# Altium integrated library TI Data Converters Analog to Digital Converter.IntLib: 2197 symbols (part 135 of 168)
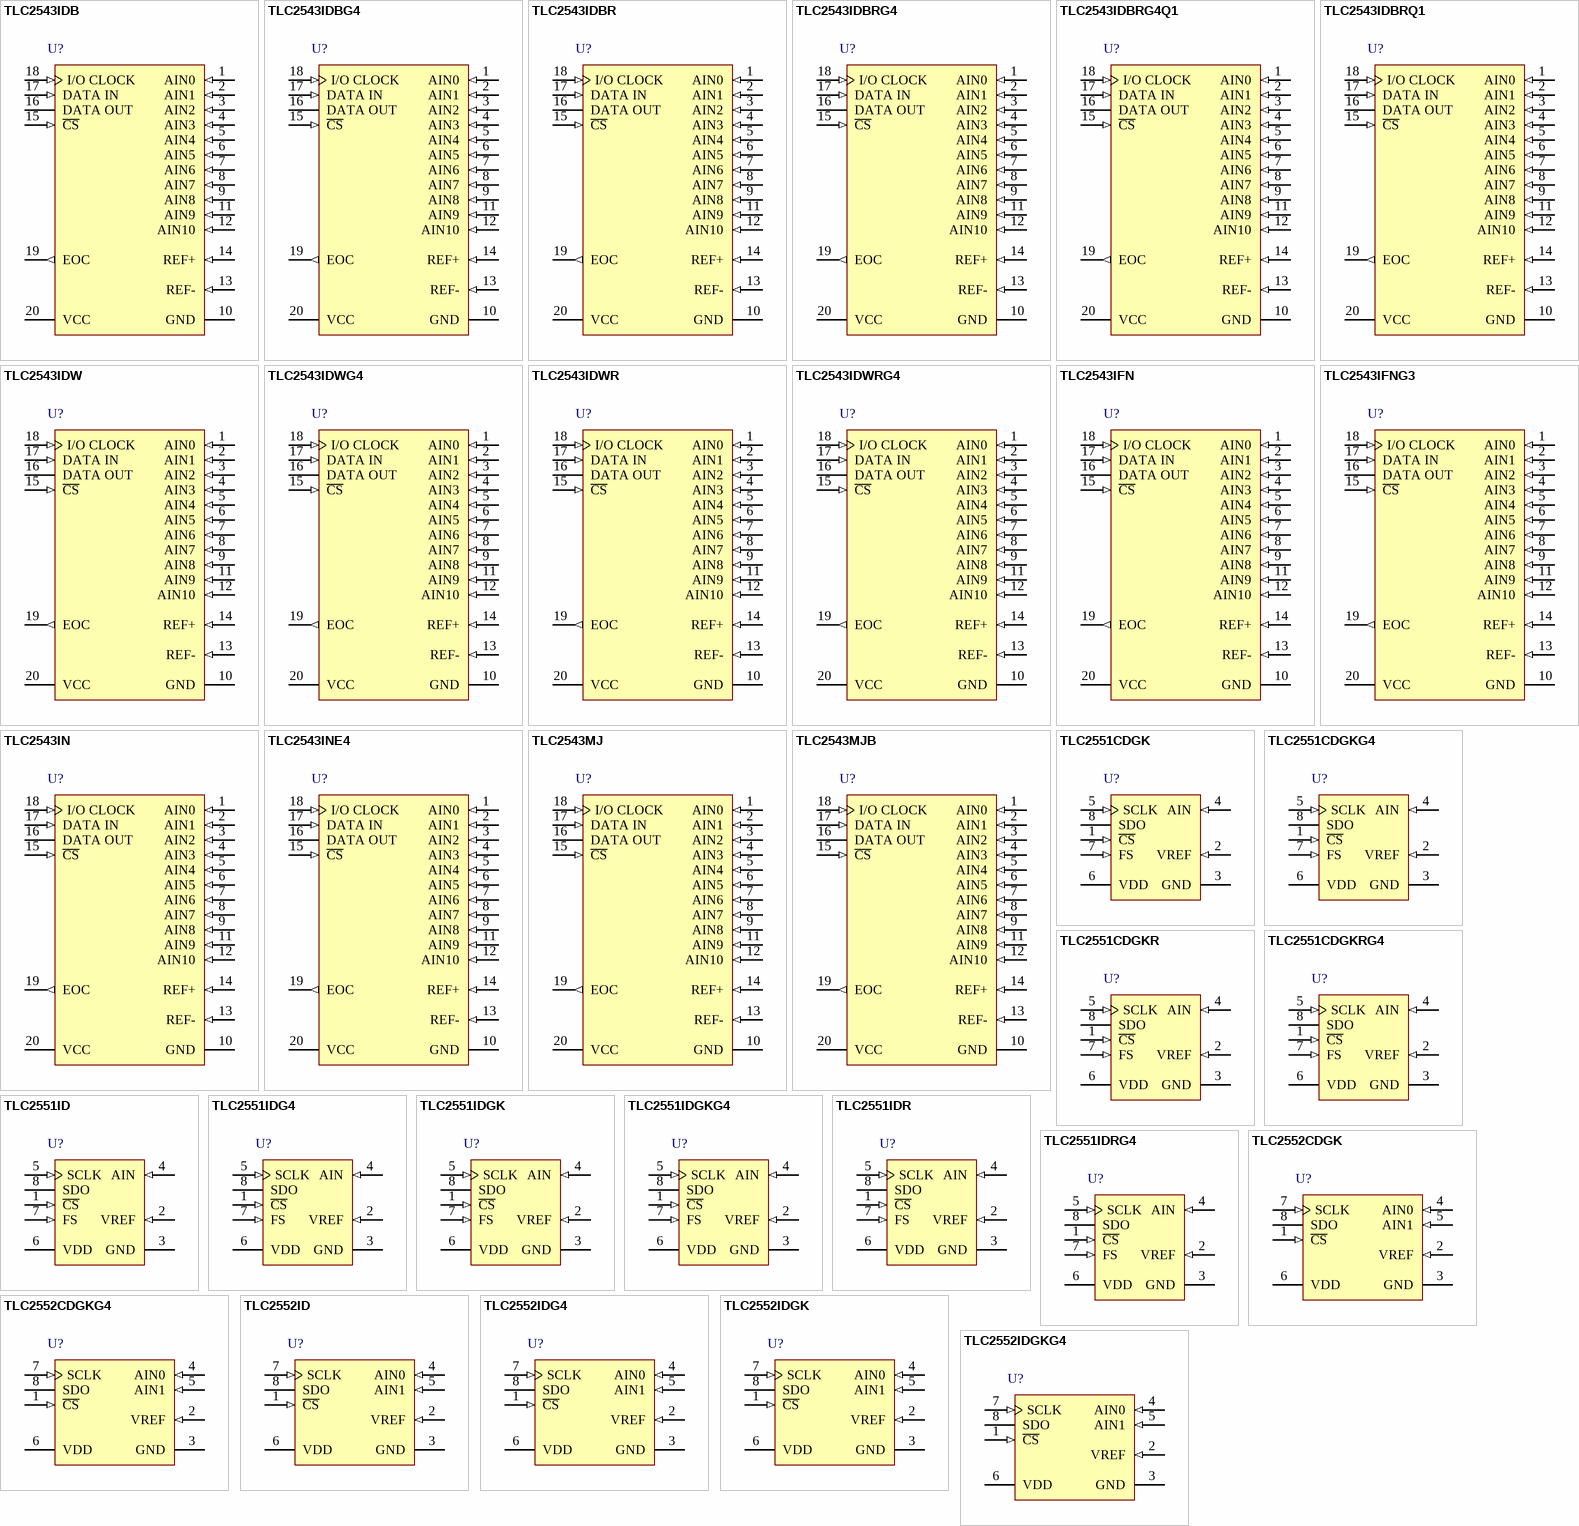
[diagram p260: symbols TLC2543IDB to TLC2552IDGKG4]

## TLC2552CDGK
designator U?
12-Bit, 400 kSPS ADC, Serial Out, TMS320 Compatible (up to 10 MHz), Dual Channel Auto Sweep, 0 to 70 degC, 8-pin SOP (DGK8), Green (RoHS & no Sb/Br); Manufacturer: Texas Instruments; PartNumber: TLC2552CDGK; # Input Channels: 2; Analog Voltage AV/DD(Max)(V): 5.5; Analog Voltage AV/DD(Min)(V): 4.5; Architecture: SAR; ENOB(Bits): 11.8; INL(Max)(+/-LSB): 1; Interface: Serial SPI; Resolution(Bits): 12; Sample Rate (max)(SPS): 400k; SFDR(dB): 84; SINAD(dB): 72; SubFamily: Precision ADC (<=10MSPS); DatasheetVersion: SLAS276D; PackageVersion: 4073329/E, 05/2006; PackageReference: DGK8; PackageDescription: 8-Pin Thin Small Outline, Body 3 x 3 mm, Pitch 0.65 mm; Supplier 1: Digi-Key; Supplier Part Number 1: TLV0838IDWRG4-ND; Supplier 2: Mouser; Supplier Part Number 2: 595-TLV0838IDWRG4; Digital Supply(Max)(V): 5.5; Digital Supply(Min)(V): 4.5; Eco-Plan: Green (RoHS & no Sb/Br); Mounting Technology: Surface Mount; Code_JEDEC: MO-187; ComponentLink1Description: Manufacturer URL; ComponentLink1URL: http://www.ti.com/; ComponentLink2Description: Datasheet; ComponentLink2URL: http://www.ti.com/general/docs/lit/getliterature.tsp?genericPartNumber=TLC2552&fileType=pdf; ComponentLink3Description: Package Specification; ComponentLink3URL: http://www.ti.com/litv/pdf/mpds028d
footprint TI-DGK8_N (SOP, 8-Leads, Body 3x3mm, Pitch 0.65mm, IPC Medium Density)
footprint TI-DGK8_L (SOP, 8-Leads, Body 3x3mm, Pitch 0.65mm, IPC High Density)
footprint TI-DGK8_M (SOP, 8-Leads, Body 3x3mm, Pitch 0.65mm, IPC Low Density)
pins: 1 ~{CS} (in) "Chip select. A high-to-low transition on C\S\ removes SDO from 3-state within a maximum delay time. This pin can be connected to the FS output from a DSP on a dedicated serial port.", 2 VREF (in) "External reference input", 3 GND (power) "Ground return for the internal circuitry. Unless otherwise noted, all voltage measurements are with respect to GND.", 4 AIN0 (in) "Analog input channel 0", 5 AIN1 (in) "Analog input channel 1", 6 VDD (power) "Positive supply voltage", 7 SCLK (in) "Output serial clock. This terminal receives the serial SCLK from the host processor.", 8 SDO (hiz) "The 3-state serial output for the A/D conversion result. SDO is kept in the high-impedance state when C\S\ is high and presents output data after the C\S\ falling edge until the LSB is presented. The output format is MSB (See Datasheet)"

## TLC2552CDGKG4
designator U?
12-Bit, 400 kSPS ADC, Serial Out, TMS320 Compatible (up to 10 MHz), Dual Channel Auto Sweep, 0 to 70 degC, 8-pin SOP (DGK8), Green (RoHS & no Sb/Br); Manufacturer: Texas Instruments; PartNumber: TLC2552CDGKG4; # Input Channels: 2; Analog Voltage AV/DD(Max)(V): 5.5; Analog Voltage AV/DD(Min)(V): 4.5; Architecture: SAR; ENOB(Bits): 11.8; INL(Max)(+/-LSB): 1; Interface: Serial SPI; Resolution(Bits): 12; Sample Rate (max)(SPS): 400k; SFDR(dB): 84; SINAD(dB): 72; SubFamily: Precision ADC (<=10MSPS); DatasheetVersion: SLAS276D; PackageVersion: 4073329/E, 05/2006; PackageReference: DGK8; PackageDescription: 8-Pin Thin Small Outline, Body 3 x 3 mm, Pitch 0.65 mm; Supplier 1: Digi-Key; Supplier Part Number 1: 296-2954-5-ND; Supplier 2: Newark; Supplier Part Number 2: 76C7764; Supplier 3: Mouser; Supplier Part Number 3: 595-TLV0838IPW; Digital Supply(Max)(V): 5.5; Digital Supply(Min)(V): 4.5; Eco-Plan: Green (RoHS & no Sb/Br); Mounting Technology: Surface Mount; Code_JEDEC: MO-187; ComponentLink1Description: Manufacturer URL; ComponentLink1URL: http://www.ti.com/; ComponentLink2Description: Datasheet; ComponentLink2URL: http://www.ti.com/general/docs/lit/getliterature.tsp?genericPartNumber=TLC2552&fileType=pdf; ComponentLink3Description: Package Specification; ComponentLink3URL: http://www.ti.com/litv/pdf/mpds028d
footprint TI-DGK8_N (SOP, 8-Leads, Body 3x3mm, Pitch 0.65mm, IPC Medium Density)
footprint TI-DGK8_L (SOP, 8-Leads, Body 3x3mm, Pitch 0.65mm, IPC High Density)
footprint TI-DGK8_M (SOP, 8-Leads, Body 3x3mm, Pitch 0.65mm, IPC Low Density)
pins: 1 ~{CS} (in) "Chip select. A high-to-low transition on C\S\ removes SDO from 3-state within a maximum delay time. This pin can be connected to the FS output from a DSP on a dedicated serial port.", 2 VREF (in) "External reference input", 3 GND (power) "Ground return for the internal circuitry. Unless otherwise noted, all voltage measurements are with respect to GND.", 4 AIN0 (in) "Analog input channel 0", 5 AIN1 (in) "Analog input channel 1", 6 VDD (power) "Positive supply voltage", 7 SCLK (in) "Output serial clock. This terminal receives the serial SCLK from the host processor.", 8 SDO (hiz) "The 3-state serial output for the A/D conversion result. SDO is kept in the high-impedance state when C\S\ is high and presents output data after the C\S\ falling edge until the LSB is presented. The output format is MSB (See Datasheet)"

## TLC2552ID
designator U?
12-Bit, 400 kSPS ADC, Serial Out, TMS320 Compatible (up to 10 MHz), Dual Channel Auto Sweep, -40 to 85 degC, 8-pin SOIC (D8), Green (RoHS & no Sb/Br); Manufacturer: Texas Instruments; PartNumber: TLC2552ID; # Input Channels: 2; Analog Voltage AV/DD(Max)(V): 5.5; Analog Voltage AV/DD(Min)(V): 4.5; Architecture: SAR; INL(Max)(+/-LSB): 1; Interface: Serial SPI; Resolution(Bits): 12; Sample Rate (max)(SPS): 400k; SFDR(dB): 84; SINAD(dB): 72; SubFamily: Precision ADC (<=10MSPS); DatasheetVersion: SLAS276D; PackageVersion: 4040047-3/M, 06/2011; PackageReference: D8; PackageDescription: 8-Pin Plastic Small Outline, Body 4.9 x 3.9 mm, Pitch 1.27 mm; Supplier 1: Digi-Key; Supplier Part Number 1: TLV0838IPWG4-ND; Supplier 2: Mouser; Supplier Part Number 2: 595-TLV0838IPWG4; Digital Supply(Max)(V): 5.5; Digital Supply(Min)(V): 4.5; Eco-Plan: Green (RoHS & no Sb/Br); Mounting Technology: Surface Mount; Code_JEDEC: MS-012; ComponentLink1Description: Manufacturer URL; ComponentLink1URL: http://www.ti.com/; ComponentLink2Description: Datasheet; ComponentLink2URL: http://www.ti.com/general/docs/lit/getliterature.tsp?genericPartNumber=TLC2552&fileType=pdf; ComponentLink3Description: Package Specification; ComponentLink3URL: http://www.ti.com/litv/pdf/msoi002j
footprint TI-D8_N (SOIC, 8-Leads, Body 4.9x3.9mm, Pitch 1.27mm, IPC Medium Density)
footprint TI-D8_L (SOIC, 8-Leads, Body 4.9x3.9mm, Pitch 1.27mm, IPC High Density)
footprint TI-D8_M (SOIC, 8-Leads, Body 4.9x3.9mm, Pitch 1.27mm, IPC Low Density)
pins: 1 ~{CS} (in) "Chip select. A high-to-low transition on C\S\ removes SDO from 3-state within a maximum delay time. This pin can be connected to the FS output from a DSP on a dedicated serial port.", 2 VREF (in) "External reference input", 3 GND (power) "Ground return for the internal circuitry. Unless otherwise noted, all voltage measurements are with respect to GND.", 4 AIN0 (in) "Analog input channel 0", 5 AIN1 (in) "Analog input channel 1", 6 VDD (power) "Positive supply voltage", 7 SCLK (in) "Output serial clock. This terminal receives the serial SCLK from the host processor.", 8 SDO (hiz) "The 3-state serial output for the A/D conversion result. SDO is kept in the high-impedance state when C\S\ is high and presents output data after the C\S\ falling edge until the LSB is presented. The output format is MSB (See Datasheet)"

## TLC2552IDG4
designator U?
12-Bit, 400 kSPS ADC, Serial Out, TMS320 Compatible (up to 10 MHz), Dual Channel Auto Sweep, -40 to 85 degC, 8-pin SOIC (D8), Green (RoHS & no Sb/Br); Manufacturer: Texas Instruments; PartNumber: TLC2552IDG4; # Input Channels: 2; Analog Voltage AV/DD(Max)(V): 5.5; Analog Voltage AV/DD(Min)(V): 4.5; Architecture: SAR; INL(Max)(+/-LSB): 1; Interface: Serial SPI; Resolution(Bits): 12; Sample Rate (max)(SPS): 400k; SFDR(dB): 84; SINAD(dB): 72; SubFamily: Precision ADC (<=10MSPS); DatasheetVersion: SLAS276D; PackageVersion: 4040047-3/M, 06/2011; PackageReference: D8; PackageDescription: 8-Pin Plastic Small Outline, Body 4.9 x 3.9 mm, Pitch 1.27 mm; Supplier 1: Digi-Key; Supplier Part Number 1: TLV0838IPWR-ND; Supplier 2: Mouser; Supplier Part Number 2: 595-TLV0838IPWR; Digital Supply(Max)(V): 5.5; Digital Supply(Min)(V): 4.5; Eco-Plan: Green (RoHS & no Sb/Br); Mounting Technology: Surface Mount; Code_JEDEC: MS-012; ComponentLink1Description: Manufacturer URL; ComponentLink1URL: http://www.ti.com/; ComponentLink2Description: Datasheet; ComponentLink2URL: http://www.ti.com/general/docs/lit/getliterature.tsp?genericPartNumber=TLC2552&fileType=pdf; ComponentLink3Description: Package Specification; ComponentLink3URL: http://www.ti.com/litv/pdf/msoi002j
footprint TI-D8_N (SOIC, 8-Leads, Body 4.9x3.9mm, Pitch 1.27mm, IPC Medium Density)
footprint TI-D8_L (SOIC, 8-Leads, Body 4.9x3.9mm, Pitch 1.27mm, IPC High Density)
footprint TI-D8_M (SOIC, 8-Leads, Body 4.9x3.9mm, Pitch 1.27mm, IPC Low Density)
pins: 1 ~{CS} (in) "Chip select. A high-to-low transition on C\S\ removes SDO from 3-state within a maximum delay time. This pin can be connected to the FS output from a DSP on a dedicated serial port.", 2 VREF (in) "External reference input", 3 GND (power) "Ground return for the internal circuitry. Unless otherwise noted, all voltage measurements are with respect to GND.", 4 AIN0 (in) "Analog input channel 0", 5 AIN1 (in) "Analog input channel 1", 6 VDD (power) "Positive supply voltage", 7 SCLK (in) "Output serial clock. This terminal receives the serial SCLK from the host processor.", 8 SDO (hiz) "The 3-state serial output for the A/D conversion result. SDO is kept in the high-impedance state when C\S\ is high and presents output data after the C\S\ falling edge until the LSB is presented. The output format is MSB (See Datasheet)"

## TLC2552IDGK
designator U?
12-Bit, 400 kSPS ADC, Serial Out, TMS320 Compatible (up to 10 MHz), Dual Channel Auto Sweep, -40 to 85 degC, 8-pin SOP (DGK8), Green (RoHS & no Sb/Br); Manufacturer: Texas Instruments; PartNumber: TLC2552IDGK; # Input Channels: 2; Analog Voltage AV/DD(Max)(V): 5.5; Analog Voltage AV/DD(Min)(V): 4.5; Architecture: SAR; ENOB(Bits): 11.8; INL(Max)(+/-LSB): 1; Interface: Serial SPI; Resolution(Bits): 12; Sample Rate (max)(SPS): 400k; SFDR(dB): 84; SINAD(dB): 72; SubFamily: Precision ADC (<=10MSPS); DatasheetVersion: SLAS276D; PackageVersion: 4073329/E, 05/2006; PackageReference: DGK8; PackageDescription: 8-Pin Thin Small Outline, Body 3 x 3 mm, Pitch 0.65 mm; Supplier 1: Digi-Key; Supplier Part Number 1: TLV0838IPWRG4-ND; Supplier 2: Mouser; Supplier Part Number 2: 595-TLV0838IPWRG4; Digital Supply(Max)(V): 5.5; Digital Supply(Min)(V): 4.5; Eco-Plan: Green (RoHS & no Sb/Br); Mounting Technology: Surface Mount; Code_JEDEC: MO-187; ComponentLink1Description: Manufacturer URL; ComponentLink1URL: http://www.ti.com/; ComponentLink2Description: Datasheet; ComponentLink2URL: http://www.ti.com/general/docs/lit/getliterature.tsp?genericPartNumber=TLC2552&fileType=pdf; ComponentLink3Description: Package Specification; ComponentLink3URL: http://www.ti.com/litv/pdf/mpds028d
footprint TI-DGK8_N (SOP, 8-Leads, Body 3x3mm, Pitch 0.65mm, IPC Medium Density)
footprint TI-DGK8_L (SOP, 8-Leads, Body 3x3mm, Pitch 0.65mm, IPC High Density)
footprint TI-DGK8_M (SOP, 8-Leads, Body 3x3mm, Pitch 0.65mm, IPC Low Density)
pins: 1 ~{CS} (in) "Chip select. A high-to-low transition on C\S\ removes SDO from 3-state within a maximum delay time. This pin can be connected to the FS output from a DSP on a dedicated serial port.", 2 VREF (in) "External reference input", 3 GND (power) "Ground return for the internal circuitry. Unless otherwise noted, all voltage measurements are with respect to GND.", 4 AIN0 (in) "Analog input channel 0", 5 AIN1 (in) "Analog input channel 1", 6 VDD (power) "Positive supply voltage", 7 SCLK (in) "Output serial clock. This terminal receives the serial SCLK from the host processor.", 8 SDO (hiz) "The 3-state serial output for the A/D conversion result. SDO is kept in the high-impedance state when C\S\ is high and presents output data after the C\S\ falling edge until the LSB is presented. The output format is MSB (See Datasheet)"

## TLC2552IDGKG4
designator U?
12-Bit, 400 kSPS ADC, Serial Out, TMS320 Compatible (up to 10 MHz), Dual Channel Auto Sweep, -40 to 85 degC, 8-pin SOP (DGK8), Green (RoHS & no Sb/Br); Manufacturer: Texas Instruments; PartNumber: TLC2552IDGKG4; # Input Channels: 2; Analog Voltage AV/DD(Max)(V): 5.5; Analog Voltage AV/DD(Min)(V): 4.5; Architecture: SAR; ENOB(Bits): 11.8; INL(Max)(+/-LSB): 1; Interface: Serial SPI; Resolution(Bits): 12; Sample Rate (max)(SPS): 400k; SFDR(dB): 84; SINAD(dB): 72; SubFamily: Precision ADC (<=10MSPS); DatasheetVersion: SLAS276D; PackageVersion: 4073329/E, 05/2006; PackageReference: DGK8; PackageDescription: 8-Pin Thin Small Outline, Body 3 x 3 mm, Pitch 0.65 mm; Supplier 1: Digi-Key; Supplier Part Number 1: 296-2872-5-ND; Supplier 2: Newark; Supplier Part Number 2: 90B1165; Supplier 3: Mouser; Supplier Part Number 3: 595-TLC1541CDW; Digital Supply(Max)(V): 5.5; Digital Supply(Min)(V): 4.5; Eco-Plan: Green (RoHS & no Sb/Br); Mounting Technology: Surface Mount; Code_JEDEC: MO-187; ComponentLink1Description: Manufacturer URL; ComponentLink1URL: http://www.ti.com/; ComponentLink2Description: Datasheet; ComponentLink2URL: http://www.ti.com/general/docs/lit/getliterature.tsp?genericPartNumber=TLC2552&fileType=pdf; ComponentLink3Description: Package Specification; ComponentLink3URL: http://www.ti.com/litv/pdf/mpds028d
footprint TI-DGK8_N (SOP, 8-Leads, Body 3x3mm, Pitch 0.65mm, IPC Medium Density)
footprint TI-DGK8_L (SOP, 8-Leads, Body 3x3mm, Pitch 0.65mm, IPC High Density)
footprint TI-DGK8_M (SOP, 8-Leads, Body 3x3mm, Pitch 0.65mm, IPC Low Density)
pins: 1 ~{CS} (in) "Chip select. A high-to-low transition on C\S\ removes SDO from 3-state within a maximum delay time. This pin can be connected to the FS output from a DSP on a dedicated serial port.", 2 VREF (in) "External reference input", 3 GND (power) "Ground return for the internal circuitry. Unless otherwise noted, all voltage measurements are with respect to GND.", 4 AIN0 (in) "Analog input channel 0", 5 AIN1 (in) "Analog input channel 1", 6 VDD (power) "Positive supply voltage", 7 SCLK (in) "Output serial clock. This terminal receives the serial SCLK from the host processor.", 8 SDO (hiz) "The 3-state serial output for the A/D conversion result. SDO is kept in the high-impedance state when C\S\ is high and presents output data after the C\S\ falling edge until the LSB is presented. The output format is MSB (See Datasheet)"

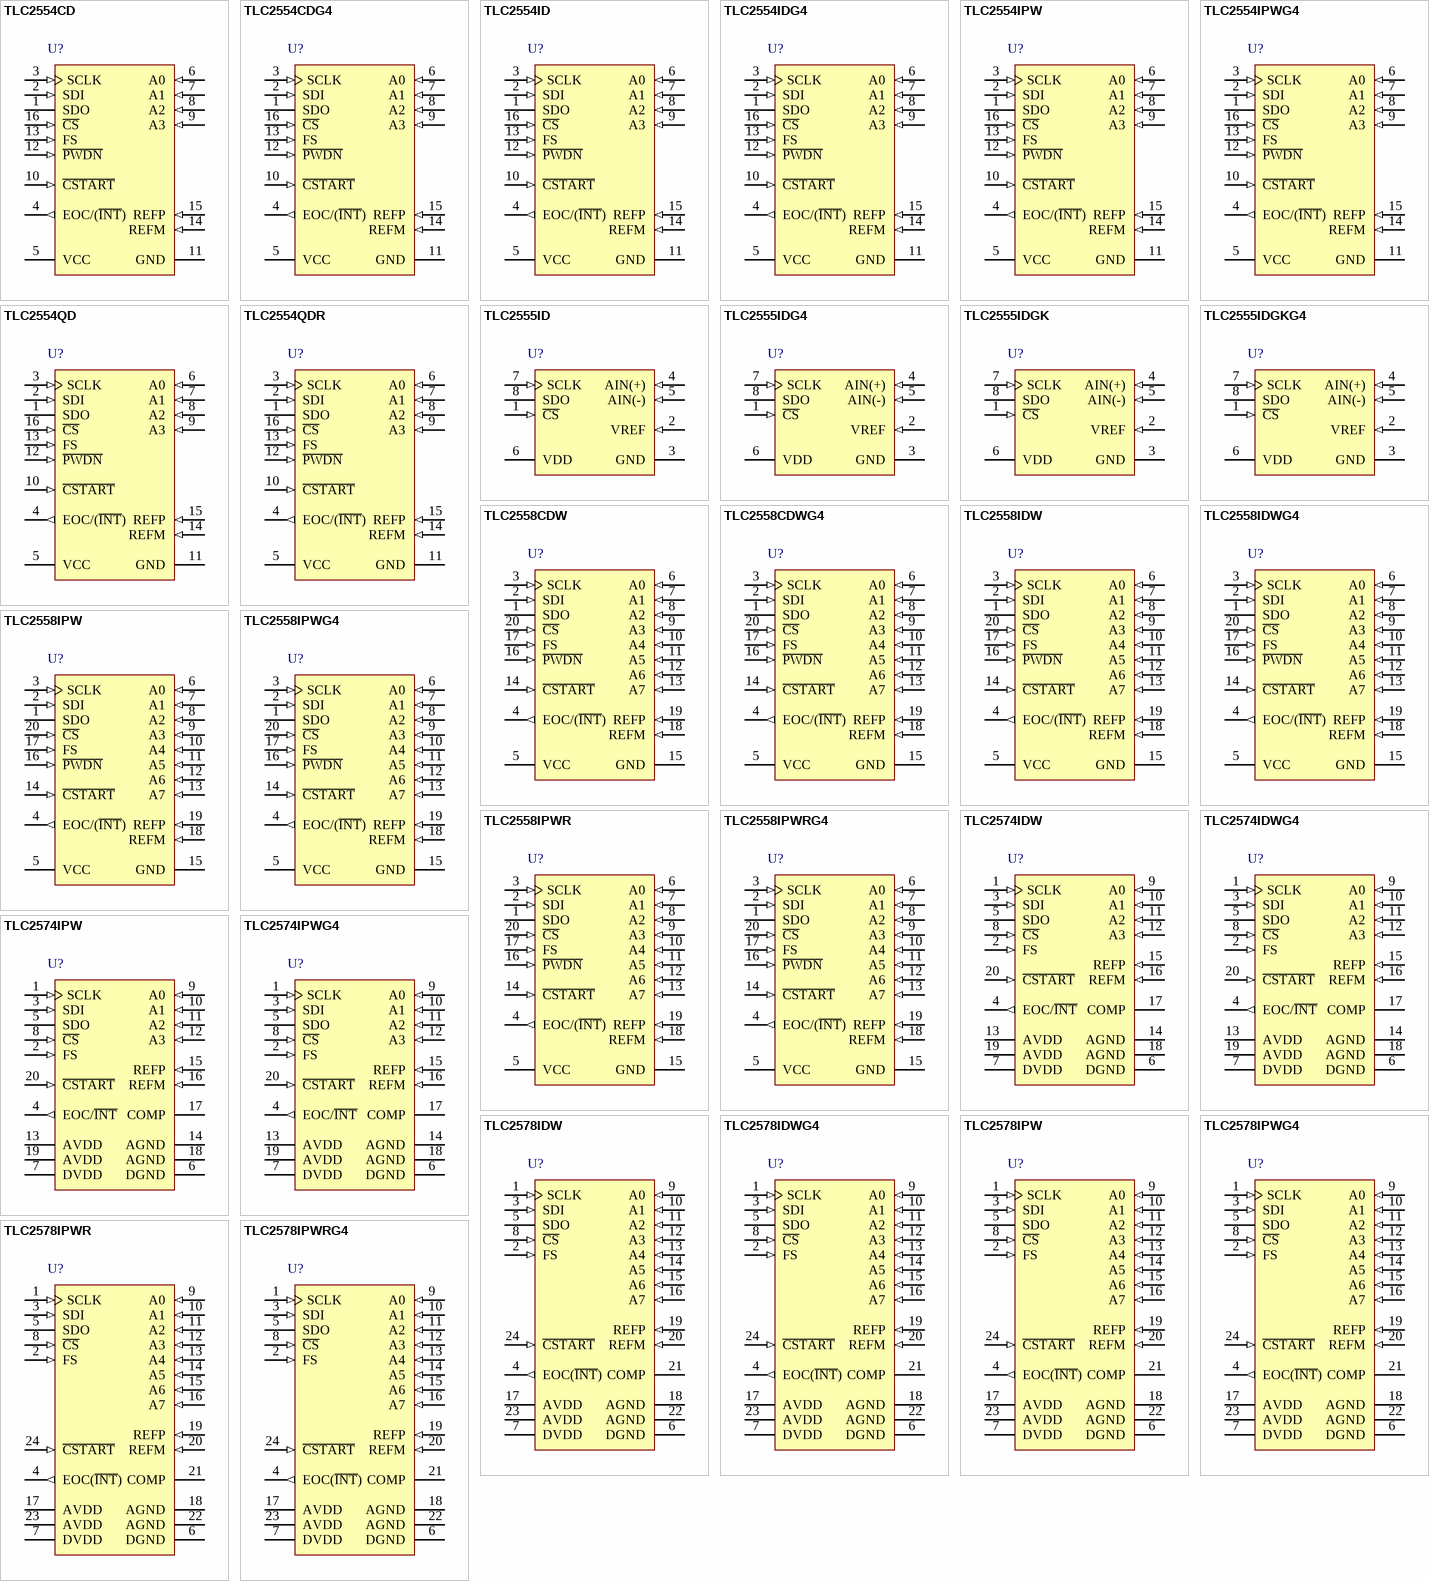
[diagram p111: symbols TLC2554CD to TLC2578IPWRG4]

## TLC2554CD
designator U?
12-Bit, 400 kSPS ADC, 4-Channel Serial with Power Down, 0 to 70 degC, 16-pin SOIC (D16), Green (RoHS & no Sb/Br); Manufacturer: Texas Instruments; PartNumber: TLC2554CD; # Input Channels: 4; Analog Voltage AV/DD(Max)(V): 5.5; Analog Voltage AV/DD(Min)(V): 4.5; Architecture: SAR; ENOB(Bits): 11.6; INL(Max)(+/-LSB): 1; Interface: Serial SPI; Resolution(Bits): 12; Sample Rate (max)(SPS): 400k; SFDR(dB): 84; SINAD(dB): 71; SubFamily: Precision ADC (<=10MSPS); DatasheetVersion: SLAS220A; PackageVersion: 4040047-6/M, 06/2011; PackageReference: D16; PackageDescription: 16-Pin Plastic Small Outline, Body 9.9 x 3.9 mm, Pitch 1.27 mm; Supplier 1: Digi-Key; Supplier Part Number 1: TLC1541CDWG4-ND; Supplier 2: Mouser; Supplier Part Number 2: 595-TLC1541CDWG4; Digital Supply(Max)(V): 5.5; Digital Supply(Min)(V): 4.5; Eco-Plan: Green (RoHS & no Sb/Br); Mounting Technology: Surface Mount; Code_JEDEC: MS-012; ComponentLink1Description: Manufacturer URL; ComponentLink1URL: http://www.ti.com/; ComponentLink2Description: Datasheet; ComponentLink2URL: http://www.ti.com/general/docs/lit/getliterature.tsp?genericPartNumber=TLC2554&fileType=pdf; ComponentLink3Description: Package Specification; ComponentLink3URL: http://www.ti.com/litv/pdf/mpds178g
footprint TI-D16_N (SOIC, 16-Leads, Body 9.9x3.9mm, Pitch 1.27mm, IPC Medium Density)
footprint TI-D16_L (SOIC, 16-Leads, Body 9.9x3.9mm, Pitch 1.27mm, IPC High Density)
footprint TI-D16_M (SOIC, 16-Leads, Body 9.9x3.9mm, Pitch 1.27mm, IPC Low Density)
pins: 1 SDO (hiz) "The 3-state serial output for the A/D conversion result.", 2 SDI (in) "Serial data input.", 3 SCLK (in) "Input serial clock.", 4 EOC/(~{INT}) (out) "End of conversion or interrupt to host processor.", 5 VCC (power) "Positive supply voltage.", 6 A0 (in) "Analog signal inputs.", 7 A1 (in) "Analog signal inputs.", 8 A2 (in) "Analog signal inputs.", 9 A3 (in) "Analog signal inputs.", 10 ~{CSTART} (in) "This terminal controls the start of sampling of the analog input from a selected multiplex channel.", 11 GND (power) "Ground return for the internal circuitry.", 12 ~{PWDN} (in) "Both analog and reference circuits are powered down when this pin is at logic zero.", 13 FS (in) "DSP frame sync input. Indication of the start of a serial data frame in or out of the device.", 14 REFM (in) "External reference input or internal reference decoupling.", 15 REFP (in) "External reference input or internal reference decoupling.", 16 ~{CS} (in) "Chip select."

## TLC2554CDG4
designator U?
12-Bit, 400 kSPS ADC, 4-Channel Serial with Power Down, 0 to 70 degC, 16-pin SOIC (D16), Green (RoHS & no Sb/Br); Manufacturer: Texas Instruments; PartNumber: TLC2554CDG4; # Input Channels: 4; Analog Voltage AV/DD(Max)(V): 5.5; Analog Voltage AV/DD(Min)(V): 4.5; Architecture: SAR; ENOB(Bits): 11.6; INL(Max)(+/-LSB): 1; Interface: Serial SPI; Resolution(Bits): 12; Sample Rate (max)(SPS): 400k; SFDR(dB): 84; SINAD(dB): 71; SubFamily: Precision ADC (<=10MSPS); DatasheetVersion: SLAS220A; PackageVersion: 4040047-6/M, 06/2011; PackageReference: D16; PackageDescription: 16-Pin Plastic Small Outline, Body 9.9 x 3.9 mm, Pitch 1.27 mm; Supplier 1: Digi-Key; Supplier Part Number 1: TLC1541CDWR-ND; Supplier 2: Mouser; Supplier Part Number 2: 595-TLC1541CDWR; Digital Supply(Max)(V): 5.5; Digital Supply(Min)(V): 4.5; Eco-Plan: Green (RoHS & no Sb/Br); Mounting Technology: Surface Mount; Code_JEDEC: MS-012; ComponentLink1Description: Manufacturer URL; ComponentLink1URL: http://www.ti.com/; ComponentLink2Description: Datasheet; ComponentLink2URL: http://www.ti.com/general/docs/lit/getliterature.tsp?genericPartNumber=TLC2554&fileType=pdf; ComponentLink3Description: Package Specification; ComponentLink3URL: http://www.ti.com/litv/pdf/mpds178g
footprint TI-D16_N (SOIC, 16-Leads, Body 9.9x3.9mm, Pitch 1.27mm, IPC Medium Density)
footprint TI-D16_L (SOIC, 16-Leads, Body 9.9x3.9mm, Pitch 1.27mm, IPC High Density)
footprint TI-D16_M (SOIC, 16-Leads, Body 9.9x3.9mm, Pitch 1.27mm, IPC Low Density)
pins: 1 SDO (hiz) "The 3-state serial output for the A/D conversion result.", 2 SDI (in) "Serial data input.", 3 SCLK (in) "Input serial clock.", 4 EOC/(~{INT}) (out) "End of conversion or interrupt to host processor.", 5 VCC (power) "Positive supply voltage.", 6 A0 (in) "Analog signal inputs.", 7 A1 (in) "Analog signal inputs.", 8 A2 (in) "Analog signal inputs.", 9 A3 (in) "Analog signal inputs.", 10 ~{CSTART} (in) "This terminal controls the start of sampling of the analog input from a selected multiplex channel.", 11 GND (power) "Ground return for the internal circuitry.", 12 ~{PWDN} (in) "Both analog and reference circuits are powered down when this pin is at logic zero.", 13 FS (in) "DSP frame sync input. Indication of the start of a serial data frame in or out of the device.", 14 REFM (in) "External reference input or internal reference decoupling.", 15 REFP (in) "External reference input or internal reference decoupling.", 16 ~{CS} (in) "Chip select."

## TLC2554ID
designator U?
12-Bit, 400 kSPS ADC, 4-Channel Serial with Power Down, -40 to 85 degC, 16-pin SOIC (D16), Green (RoHS & no Sb/Br); Manufacturer: Texas Instruments; PartNumber: TLC2554ID; # Input Channels: 4; Analog Voltage AV/DD(Max)(V): 5.5; Analog Voltage AV/DD(Min)(V): 4.5; Architecture: SAR; ENOB(Bits): 11.6; INL(Max)(+/-LSB): 1; Interface: Serial SPI; Resolution(Bits): 12; Sample Rate (max)(SPS): 400k; SFDR(dB): 84; SINAD(dB): 71; SubFamily: Precision ADC (<=10MSPS); DatasheetVersion: SLAS220A; PackageVersion: 4040047-6/M, 06/2011; PackageReference: D16; PackageDescription: 16-Pin Plastic Small Outline, Body 9.9 x 3.9 mm, Pitch 1.27 mm; Supplier 1: Digi-Key; Supplier Part Number 1: TLC1541CDWRG4-ND; Supplier 2: Mouser; Supplier Part Number 2: 595-TLC1541CDWRG4; Digital Supply(Max)(V): 5.5; Digital Supply(Min)(V): 4.5; Eco-Plan: Green (RoHS & no Sb/Br); Mounting Technology: Surface Mount; Code_JEDEC: MS-012; ComponentLink1Description: Manufacturer URL; ComponentLink1URL: http://www.ti.com/; ComponentLink2Description: Datasheet; ComponentLink2URL: http://www.ti.com/general/docs/lit/getliterature.tsp?genericPartNumber=TLC2554&fileType=pdf; ComponentLink3Description: Package Specification; ComponentLink3URL: http://www.ti.com/litv/pdf/mpds178g
footprint TI-D16_N (SOIC, 16-Leads, Body 9.9x3.9mm, Pitch 1.27mm, IPC Medium Density)
footprint TI-D16_L (SOIC, 16-Leads, Body 9.9x3.9mm, Pitch 1.27mm, IPC High Density)
footprint TI-D16_M (SOIC, 16-Leads, Body 9.9x3.9mm, Pitch 1.27mm, IPC Low Density)
pins: 1 SDO (hiz) "The 3-state serial output for the A/D conversion result.", 2 SDI (in) "Serial data input.", 3 SCLK (in) "Input serial clock.", 4 EOC/(~{INT}) (out) "End of conversion or interrupt to host processor.", 5 VCC (power) "Positive supply voltage.", 6 A0 (in) "Analog signal inputs.", 7 A1 (in) "Analog signal inputs.", 8 A2 (in) "Analog signal inputs.", 9 A3 (in) "Analog signal inputs.", 10 ~{CSTART} (in) "This terminal controls the start of sampling of the analog input from a selected multiplex channel.", 11 GND (power) "Ground return for the internal circuitry.", 12 ~{PWDN} (in) "Both analog and reference circuits are powered down when this pin is at logic zero.", 13 FS (in) "DSP frame sync input. Indication of the start of a serial data frame in or out of the device.", 14 REFM (in) "External reference input or internal reference decoupling.", 15 REFP (in) "External reference input or internal reference decoupling.", 16 ~{CS} (in) "Chip select."

## TLC2554IDG4
designator U?
12-Bit, 400 kSPS ADC, 4-Channel Serial with Power Down, -40 to 85 degC, 16-pin SOIC (D16), Green (RoHS & no Sb/Br); Manufacturer: Texas Instruments; PartNumber: TLC2554IDG4; # Input Channels: 4; Analog Voltage AV/DD(Max)(V): 5.5; Analog Voltage AV/DD(Min)(V): 4.5; Architecture: SAR; ENOB(Bits): 11.6; INL(Max)(+/-LSB): 1; Interface: Serial SPI; Resolution(Bits): 12; Sample Rate (max)(SPS): 400k; SFDR(dB): 84; SINAD(dB): 71; SubFamily: Precision ADC (<=10MSPS); DatasheetVersion: SLAS220A; PackageVersion: 4040047-6/M, 06/2011; PackageReference: D16; PackageDescription: 16-Pin Plastic Small Outline, Body 9.9 x 3.9 mm, Pitch 1.27 mm; Supplier 1: Digi-Key; Supplier Part Number 1: 296-2873-5-ND; Supplier 2: Mouser; Supplier Part Number 2: 595-TLC1541CFN; Digital Supply(Max)(V): 5.5; Digital Supply(Min)(V): 4.5; Eco-Plan: Green (RoHS & no Sb/Br); Mounting Technology: Surface Mount; Code_JEDEC: MS-012; ComponentLink1Description: Manufacturer URL; ComponentLink1URL: http://www.ti.com/; ComponentLink2Description: Datasheet; ComponentLink2URL: http://www.ti.com/general/docs/lit/getliterature.tsp?genericPartNumber=TLC2554&fileType=pdf; ComponentLink3Description: Package Specification; ComponentLink3URL: http://www.ti.com/litv/pdf/mpds178g
footprint TI-D16_N (SOIC, 16-Leads, Body 9.9x3.9mm, Pitch 1.27mm, IPC Medium Density)
footprint TI-D16_L (SOIC, 16-Leads, Body 9.9x3.9mm, Pitch 1.27mm, IPC High Density)
footprint TI-D16_M (SOIC, 16-Leads, Body 9.9x3.9mm, Pitch 1.27mm, IPC Low Density)
pins: 1 SDO (hiz) "The 3-state serial output for the A/D conversion result.", 2 SDI (in) "Serial data input.", 3 SCLK (in) "Input serial clock.", 4 EOC/(~{INT}) (out) "End of conversion or interrupt to host processor.", 5 VCC (power) "Positive supply voltage.", 6 A0 (in) "Analog signal inputs.", 7 A1 (in) "Analog signal inputs.", 8 A2 (in) "Analog signal inputs.", 9 A3 (in) "Analog signal inputs.", 10 ~{CSTART} (in) "This terminal controls the start of sampling of the analog input from a selected multiplex channel.", 11 GND (power) "Ground return for the internal circuitry.", 12 ~{PWDN} (in) "Both analog and reference circuits are powered down when this pin is at logic zero.", 13 FS (in) "DSP frame sync input. Indication of the start of a serial data frame in or out of the device.", 14 REFM (in) "External reference input or internal reference decoupling.", 15 REFP (in) "External reference input or internal reference decoupling.", 16 ~{CS} (in) "Chip select."

## TLC2554IPW
designator U?
12-Bit, 400 kSPS ADC, 4-Channel Serial with Power Down, -40 to 85 degC, 16-pin SOP (PW16), Green (RoHS & no Sb/Br); Manufacturer: Texas Instruments; PartNumber: TLC2554IPW; # Input Channels: 4; Analog Voltage AV/DD(Max)(V): 5.5; Analog Voltage AV/DD(Min)(V): 4.5; Architecture: SAR; ENOB(Bits): 11.6; INL(Max)(+/-LSB): 1; Interface: Serial SPI; Resolution(Bits): 12; Sample Rate (max)(SPS): 400k; SFDR(dB): 84; SINAD(dB): 71; SubFamily: Precision ADC (<=10MSPS); DatasheetVersion: SLAS220A; PackageVersion: 4040064-4/G, 02/2011; PackageReference: PW16; PackageDescription: 16-Pin Plastic Small Outline, Body 5 x 4.4 mm, Pitch 0.65 mm; Supplier 1: Digi-Key; Supplier Part Number 1: TLC1541CFNG3-ND; Supplier 2: Mouser; Supplier Part Number 2: 595-TLC1541CFNG3; Digital Supply(Max)(V): 5.5; Digital Supply(Min)(V): 4.5; Eco-Plan: Green (RoHS & no Sb/Br); Mounting Technology: Surface Mount; Code_JEDEC: MO-153; ComponentLink1Description: Manufacturer URL; ComponentLink1URL: http://www.ti.com/; ComponentLink2Description: Datasheet; ComponentLink2URL: http://www.ti.com/general/docs/lit/getliterature.tsp?genericPartNumber=TLC2554&fileType=pdf; ComponentLink3Description: Package Specification; ComponentLink3URL: http://www.ti.com/lit/ml/mpds361/mpds361.pdf
footprint TI-PW16_N (SOP, 16-Leads, Body 5x4.4mm, Pitch 0.65mm, IPC Medium Density)
footprint TI-PW16_L (SOP, 16-Leads, Body 5x4.4mm, Pitch 0.65mm, IPC High Density)
footprint TI-PW16_M (SOP, 16-Leads, Body 5x4.4mm, Pitch 0.65mm, IPC Low Density)
pins: 1 SDO (hiz) "The 3-state serial output for the A/D conversion result.", 2 SDI (in) "Serial data input.", 3 SCLK (in) "Input serial clock.", 4 EOC/(~{INT}) (out) "End of conversion or interrupt to host processor.", 5 VCC (power) "Positive supply voltage.", 6 A0 (in) "Analog signal inputs.", 7 A1 (in) "Analog signal inputs.", 8 A2 (in) "Analog signal inputs.", 9 A3 (in) "Analog signal inputs.", 10 ~{CSTART} (in) "This terminal controls the start of sampling of the analog input from a selected multiplex channel.", 11 GND (power) "Ground return for the internal circuitry.", 12 ~{PWDN} (in) "Both analog and reference circuits are powered down when this pin is at logic zero.", 13 FS (in) "DSP frame sync input. Indication of the start of a serial data frame in or out of the device.", 14 REFM (in) "External reference input or internal reference decoupling.", 15 REFP (in) "External reference input or internal reference decoupling.", 16 ~{CS} (in) "Chip select."

## TLC2554IPWG4
designator U?
12-Bit, 400 kSPS ADC, 4-Channel Serial with Power Down, -40 to 85 degC, 16-pin SOP (PW16), Green (RoHS & no Sb/Br); Manufacturer: Texas Instruments; PartNumber: TLC2554IPWG4; # Input Channels: 4; Analog Voltage AV/DD(Max)(V): 5.5; Analog Voltage AV/DD(Min)(V): 4.5; Architecture: SAR; ENOB(Bits): 11.6; INL(Max)(+/-LSB): 1; Interface: Serial SPI; Resolution(Bits): 12; Sample Rate (max)(SPS): 400k; SFDR(dB): 84; SINAD(dB): 71; SubFamily: Precision ADC (<=10MSPS); DatasheetVersion: SLAS220A; PackageVersion: 4040064-4/G, 02/2011; PackageReference: PW16; PackageDescription: 16-Pin Plastic Small Outline, Body 5 x 4.4 mm, Pitch 0.65 mm; Supplier 1: Digi-Key; Supplier Part Number 1: 296-2874-5-ND; Supplier 2: Newark; Supplier Part Number 2: 08F8994; Supplier 3: Mouser; Supplier Part Number 3: 595-TLC1541CN; Digital Supply(Max)(V): 5.5; Digital Supply(Min)(V): 4.5; Eco-Plan: Green (RoHS & no Sb/Br); Mounting Technology: Surface Mount; Code_JEDEC: MO-153; ComponentLink1Description: Manufacturer URL; ComponentLink1URL: http://www.ti.com/; ComponentLink2Description: Datasheet; ComponentLink2URL: http://www.ti.com/general/docs/lit/getliterature.tsp?genericPartNumber=TLC2554&fileType=pdf; ComponentLink3Description: Package Specification; ComponentLink3URL: http://www.ti.com/lit/ml/mpds361/mpds361.pdf
footprint TI-PW16_N (SOP, 16-Leads, Body 5x4.4mm, Pitch 0.65mm, IPC Medium Density)
footprint TI-PW16_L (SOP, 16-Leads, Body 5x4.4mm, Pitch 0.65mm, IPC High Density)
footprint TI-PW16_M (SOP, 16-Leads, Body 5x4.4mm, Pitch 0.65mm, IPC Low Density)
pins: 1 SDO (hiz) "The 3-state serial output for the A/D conversion result.", 2 SDI (in) "Serial data input.", 3 SCLK (in) "Input serial clock.", 4 EOC/(~{INT}) (out) "End of conversion or interrupt to host processor.", 5 VCC (power) "Positive supply voltage.", 6 A0 (in) "Analog signal inputs.", 7 A1 (in) "Analog signal inputs.", 8 A2 (in) "Analog signal inputs.", 9 A3 (in) "Analog signal inputs.", 10 ~{CSTART} (in) "This terminal controls the start of sampling of the analog input from a selected multiplex channel.", 11 GND (power) "Ground return for the internal circuitry.", 12 ~{PWDN} (in) "Both analog and reference circuits are powered down when this pin is at logic zero.", 13 FS (in) "DSP frame sync input. Indication of the start of a serial data frame in or out of the device.", 14 REFM (in) "External reference input or internal reference decoupling.", 15 REFP (in) "External reference input or internal reference decoupling.", 16 ~{CS} (in) "Chip select."

## TLC2554QD
designator U?
12-Bit, 400 kSPS ADC, 4-Channel Serial with Power Down, -40 to 125 degC, 16-pin SOIC (D16); Manufacturer: Texas Instruments; PartNumber: TLC2554QD; # Input Channels: 4; Analog Voltage AV/DD(Max)(V): 5.5; Analog Voltage AV/DD(Min)(V): 4.5; Architecture: SAR; ENOB(Bits): 11.6; INL(Max)(+/-LSB): 1; Interface: Serial SPI; Resolution(Bits): 12; Sample Rate (max)(SPS): 400k; SFDR(dB): 84; SINAD(dB): 71; SubFamily: Precision ADC (<=10MSPS); DatasheetVersion: SLAS220A; PackageVersion: 4040047-6/M, 06/2011; PackageReference: D16; PackageDescription: 16-Pin Plastic Small Outline, Body 9.9 x 3.9 mm, Pitch 1.27 mm; Supplier 1: Digi-Key; Supplier Part Number 1: TLC1541CNE4-ND; Supplier 2: Mouser; Supplier Part Number 2: 595-TLC1541CNE4; Digital Supply(Max)(V): 5.5; Digital Supply(Min)(V): 4.5; Mounting Technology: Surface Mount; Code_JEDEC: MS-012; ComponentLink1Description: Manufacturer URL; ComponentLink1URL: http://www.ti.com/; ComponentLink2Description: Datasheet; ComponentLink2URL: http://www.ti.com/general/docs/lit/getliterature.tsp?genericPartNumber=TLC2554&fileType=pdf; ComponentLink3Description: Package Specification; ComponentLink3URL: http://www.ti.com/litv/pdf/mpds178g
footprint TI-D16_N (SOIC, 16-Leads, Body 9.9x3.9mm, Pitch 1.27mm, IPC Medium Density)
footprint TI-D16_L (SOIC, 16-Leads, Body 9.9x3.9mm, Pitch 1.27mm, IPC High Density)
footprint TI-D16_M (SOIC, 16-Leads, Body 9.9x3.9mm, Pitch 1.27mm, IPC Low Density)
pins: 1 SDO (hiz) "The 3-state serial output for the A/D conversion result.", 2 SDI (in) "Serial data input.", 3 SCLK (in) "Input serial clock.", 4 EOC/(~{INT}) (out) "End of conversion or interrupt to host processor.", 5 VCC (power) "Positive supply voltage.", 6 A0 (in) "Analog signal inputs.", 7 A1 (in) "Analog signal inputs.", 8 A2 (in) "Analog signal inputs.", 9 A3 (in) "Analog signal inputs.", 10 ~{CSTART} (in) "This terminal controls the start of sampling of the analog input from a selected multiplex channel.", 11 GND (power) "Ground return for the internal circuitry.", 12 ~{PWDN} (in) "Both analog and reference circuits are powered down when this pin is at logic zero.", 13 FS (in) "DSP frame sync input. Indication of the start of a serial data frame in or out of the device.", 14 REFM (in) "External reference input or internal reference decoupling.", 15 REFP (in) "External reference input or internal reference decoupling.", 16 ~{CS} (in) "Chip select."

## TLC2554QDR
designator U?
12-Bit, 400 kSPS ADC, 4-Channel Serial with Power Down, -40 to 125 degC, 16-pin SOIC (D16); Manufacturer: Texas Instruments; PartNumber: TLC2554QDR; # Input Channels: 4; Analog Voltage AV/DD(Max)(V): 5.5; Analog Voltage AV/DD(Min)(V): 4.5; Architecture: SAR; ENOB(Bits): 11.6; INL(Max)(+/-LSB): 1; Interface: Serial SPI; Resolution(Bits): 12; Sample Rate (max)(SPS): 400k; SFDR(dB): 84; SINAD(dB): 71; SubFamily: Precision ADC (<=10MSPS); DatasheetVersion: SLAS220A; PackageVersion: 4040047-6/M, 06/2011; PackageReference: D16; PackageDescription: 16-Pin Plastic Small Outline, Body 9.9 x 3.9 mm, Pitch 1.27 mm; Supplier 1: Digi-Key; Supplier Part Number 1: 296-2875-5-ND; Supplier 2: Newark; Supplier Part Number 2: 08F8995; Supplier 3: Mouser; Supplier Part Number 3: 595-TLC1541IDW; Digital Supply(Max)(V): 5.5; Digital Supply(Min)(V): 4.5; Mounting Technology: Surface Mount; Code_JEDEC: MS-012; ComponentLink1Description: Manufacturer URL; ComponentLink1URL: http://www.ti.com/; ComponentLink2Description: Datasheet; ComponentLink2URL: http://www.ti.com/general/docs/lit/getliterature.tsp?genericPartNumber=TLC2554&fileType=pdf; ComponentLink3Description: Package Specification; ComponentLink3URL: http://www.ti.com/litv/pdf/mpds178g
footprint TI-D16_N (SOIC, 16-Leads, Body 9.9x3.9mm, Pitch 1.27mm, IPC Medium Density)
footprint TI-D16_L (SOIC, 16-Leads, Body 9.9x3.9mm, Pitch 1.27mm, IPC High Density)
footprint TI-D16_M (SOIC, 16-Leads, Body 9.9x3.9mm, Pitch 1.27mm, IPC Low Density)
pins: 1 SDO (hiz) "The 3-state serial output for the A/D conversion result.", 2 SDI (in) "Serial data input.", 3 SCLK (in) "Input serial clock.", 4 EOC/(~{INT}) (out) "End of conversion or interrupt to host processor.", 5 VCC (power) "Positive supply voltage.", 6 A0 (in) "Analog signal inputs.", 7 A1 (in) "Analog signal inputs.", 8 A2 (in) "Analog signal inputs.", 9 A3 (in) "Analog signal inputs.", 10 ~{CSTART} (in) "This terminal controls the start of sampling of the analog input from a selected multiplex channel.", 11 GND (power) "Ground return for the internal circuitry.", 12 ~{PWDN} (in) "Both analog and reference circuits are powered down when this pin is at logic zero.", 13 FS (in) "DSP frame sync input. Indication of the start of a serial data frame in or out of the device.", 14 REFM (in) "External reference input or internal reference decoupling.", 15 REFP (in) "External reference input or internal reference decoupling.", 16 ~{CS} (in) "Chip select."

## TLC2555ID
designator U?
12-Bit, 400 kSPS ADC, Serial Out, TMS320 Compatible (up to 10 MHz), Single Channel Pseudo-Differential, -40 to 85 degC, 8-pin SOIC (D8), Green (RoHS & no Sb/Br); Manufacturer: Texas Instruments; PartNumber: TLC2555ID; # Input Channels: 1; Analog Voltage AV/DD(Max)(V): 5.5; Analog Voltage AV/DD(Min)(V): 4.5; Architecture: SAR; ENOB(Bits): 11.8; Interface: Serial SPI; Resolution(Bits): 12; Sample Rate (max)(SPS): 400k; SFDR(dB): 84; SINAD(dB): 72; SubFamily: Precision ADC (<=10MSPS); DatasheetVersion: SLAS276D; PackageVersion: 4040047-3/M, 06/2011; PackageReference: D8; PackageDescription: 8-Pin Plastic Small Outline, Body 4.9 x 3.9 mm, Pitch 1.27 mm; Supplier 1: Digi-Key; Supplier Part Number 1: TLC1541IDWG4-ND; Supplier 2: Mouser; Supplier Part Number 2: 595-TLC1541IDWG4; Digital Supply(Max)(V): 5.5; Digital Supply(Min)(V): 4.5; Eco-Plan: Green (RoHS & no Sb/Br); INL(Max)(+/-LSB): 1; Mounting Technology: Surface Mount; Code_JEDEC: MS-012; ComponentLink1Description: Manufacturer URL; ComponentLink1URL: http://www.ti.com/; ComponentLink2Description: Datasheet; ComponentLink2URL: http://www.ti.com/general/docs/lit/getliterature.tsp?genericPartNumber=TLC2555&fileType=pdf; ComponentLink3Description: Package Specification; ComponentLink3URL: http://www.ti.com/litv/pdf/msoi002j
footprint TI-D8_N (SOIC, 8-Leads, Body 4.9x3.9mm, Pitch 1.27mm, IPC Medium Density)
footprint TI-D8_L (SOIC, 8-Leads, Body 4.9x3.9mm, Pitch 1.27mm, IPC High Density)
footprint TI-D8_M (SOIC, 8-Leads, Body 4.9x3.9mm, Pitch 1.27mm, IPC Low Density)
pins: 1 ~{CS} (in) "Chip select. A high-to-low transition on C\S\ removes SDO from 3-state within a maximum delay time. This pin can be connected to the FS output from a DSP on a dedicated serial port", 2 VREF (in) "External reference input", 3 GND (power) "Ground return for the internal circuitry. Unless otherwise noted, all voltage measurements are with respect to GND.", 4 AIN(+) (in) "Positive input", 5 AIN(-) (in) "Inverted input", 6 VDD (power) "Positive supply voltage", 7 SCLK (in) "Output serial clock. This terminal receives the serial SCLK from the host processor", 8 SDO (hiz) "The 3-state serial output for the A/D conversion result. SDO is kept in the high-impedance state when C\S\ is high and presents output data after the C\S\ falling edge until the LSB is presented. The output format is MSB (See Datasheet)"

## TLC2555IDG4
designator U?
12-Bit, 400 kSPS ADC, Serial Out, TMS320 Compatible (up to 10 MHz), Single Channel Pseudo-Differential, -40 to 85 degC, 8-pin SOIC (D8), Green (RoHS & no Sb/Br); Manufacturer: Texas Instruments; PartNumber: TLC2555IDG4; # Input Channels: 1; Analog Voltage AV/DD(Max)(V): 5.5; Analog Voltage AV/DD(Min)(V): 4.5; Architecture: SAR; ENOB(Bits): 11.8; Interface: Serial SPI; Resolution(Bits): 12; Sample Rate (max)(SPS): 400k; SFDR(dB): 84; SINAD(dB): 72; SubFamily: Precision ADC (<=10MSPS); DatasheetVersion: SLAS276D; PackageVersion: 4040047-3/M, 06/2011; PackageReference: D8; PackageDescription: 8-Pin Plastic Small Outline, Body 4.9 x 3.9 mm, Pitch 1.27 mm; Supplier 1: Digi-Key; Supplier Part Number 1: TLC1541IDWR-ND; Supplier 2: Mouser; Supplier Part Number 2: 595-TLC1541IDWR; Digital Supply(Max)(V): 5.5; Digital Supply(Min)(V): 4.5; Eco-Plan: Green (RoHS & no Sb/Br); INL(Max)(+/-LSB): 1; Mounting Technology: Surface Mount; Code_JEDEC: MS-012; ComponentLink1Description: Manufacturer URL; ComponentLink1URL: http://www.ti.com/; ComponentLink2Description: Datasheet; ComponentLink2URL: http://www.ti.com/general/docs/lit/getliterature.tsp?genericPartNumber=TLC2555&fileType=pdf; ComponentLink3Description: Package Specification; ComponentLink3URL: http://www.ti.com/litv/pdf/msoi002j
footprint TI-D8_N (SOIC, 8-Leads, Body 4.9x3.9mm, Pitch 1.27mm, IPC Medium Density)
footprint TI-D8_L (SOIC, 8-Leads, Body 4.9x3.9mm, Pitch 1.27mm, IPC High Density)
footprint TI-D8_M (SOIC, 8-Leads, Body 4.9x3.9mm, Pitch 1.27mm, IPC Low Density)
pins: 1 ~{CS} (in) "Chip select. A high-to-low transition on C\S\ removes SDO from 3-state within a maximum delay time. This pin can be connected to the FS output from a DSP on a dedicated serial port", 2 VREF (in) "External reference input", 3 GND (power) "Ground return for the internal circuitry. Unless otherwise noted, all voltage measurements are with respect to GND.", 4 AIN(+) (in) "Positive input", 5 AIN(-) (in) "Inverted input", 6 VDD (power) "Positive supply voltage", 7 SCLK (in) "Output serial clock. This terminal receives the serial SCLK from the host processor", 8 SDO (hiz) "The 3-state serial output for the A/D conversion result. SDO is kept in the high-impedance state when C\S\ is high and presents output data after the C\S\ falling edge until the LSB is presented. The output format is MSB (See Datasheet)"

## TLC2555IDGK
designator U?
12-Bit, 400 kSPS ADC, Serial Out, TMS320 Compatible (up to 10 MHz), Single Channel Pseudo-Differential, -40 to 85 degC, 8-pin SOP (DGK8), Green (RoHS & no Sb/Br); Manufacturer: Texas Instruments; PartNumber: TLC2555IDGK; # Input Channels: 1; Analog Voltage AV/DD(Max)(V): 5.5; Analog Voltage AV/DD(Min)(V): 4.5; Architecture: SAR; ENOB(Bits): 11.8; Interface: Serial SPI; Resolution(Bits): 12; Sample Rate (max)(SPS): 400k; SFDR(dB): 84; SINAD(dB): 72; SubFamily: Precision ADC (<=10MSPS); DatasheetVersion: SLAS276D; PackageVersion: 4073329/E, 05/2006; PackageReference: DGK8; PackageDescription: 8-Pin Thin Small Outline, Body 3 x 3 mm, Pitch 0.65 mm; Supplier 1: Digi-Key; Supplier Part Number 1: TLC1541IDWRG4-ND; Supplier 2: Mouser; Supplier Part Number 2: 595-TLC1541IDWRG4; Digital Supply(Max)(V): 5.5; Digital Supply(Min)(V): 4.5; Eco-Plan: Green (RoHS & no Sb/Br); INL(Max)(+/-LSB): 1; Mounting Technology: Surface Mount; Code_JEDEC: MO-187; ComponentLink1Description: Manufacturer URL; ComponentLink1URL: http://www.ti.com/; ComponentLink2Description: Datasheet; ComponentLink2URL: http://www.ti.com/general/docs/lit/getliterature.tsp?genericPartNumber=TLC2555&fileType=pdf; ComponentLink3Description: Package Specification; ComponentLink3URL: http://www.ti.com/litv/pdf/mpds028d
footprint TI-DGK8_N (SOP, 8-Leads, Body 3x3mm, Pitch 0.65mm, IPC Medium Density)
footprint TI-DGK8_L (SOP, 8-Leads, Body 3x3mm, Pitch 0.65mm, IPC High Density)
footprint TI-DGK8_M (SOP, 8-Leads, Body 3x3mm, Pitch 0.65mm, IPC Low Density)
pins: 1 ~{CS} (in) "Chip select. A high-to-low transition on C\S\ removes SDO from 3-state within a maximum delay time. This pin can be connected to the FS output from a DSP on a dedicated serial port", 2 VREF (in) "External reference input", 3 GND (power) "Ground return for the internal circuitry. Unless otherwise noted, all voltage measurements are with respect to GND.", 4 AIN(+) (in) "Positive input", 5 AIN(-) (in) "Inverted input", 6 VDD (power) "Positive supply voltage", 7 SCLK (in) "Output serial clock. This terminal receives the serial SCLK from the host processor", 8 SDO (hiz) "The 3-state serial output for the A/D conversion result. SDO is kept in the high-impedance state when C\S\ is high and presents output data after the C\S\ falling edge until the LSB is presented. The output format is MSB (See Datasheet)"

## TLC2555IDGKG4
designator U?
12-Bit, 400 kSPS ADC, Serial Out, TMS320 Compatible (up to 10 MHz), Single Channel Pseudo-Differential, -40 to 85 degC, 8-pin SOP (DGK8), Green (RoHS & no Sb/Br); Manufacturer: Texas Instruments; PartNumber: TLC2555IDGKG4; # Input Channels: 1; Analog Voltage AV/DD(Max)(V): 5.5; Analog Voltage AV/DD(Min)(V): 4.5; Architecture: SAR; ENOB(Bits): 11.8; Interface: Serial SPI; Resolution(Bits): 12; Sample Rate (max)(SPS): 400k; SFDR(dB): 84; SINAD(dB): 72; SubFamily: Precision ADC (<=10MSPS); DatasheetVersion: SLAS276D; PackageVersion: 4073329/E, 05/2006; PackageReference: DGK8; PackageDescription: 8-Pin Thin Small Outline, Body 3 x 3 mm, Pitch 0.65 mm; Supplier 1: Digi-Key; Supplier Part Number 1: 296-2876-5-ND; Supplier 2: Mouser; Supplier Part Number 2: 595-TLC1541IFN; Digital Supply(Max)(V): 5.5; Digital Supply(Min)(V): 4.5; Eco-Plan: Green (RoHS & no Sb/Br); INL(Max)(+/-LSB): 1; Mounting Technology: Surface Mount; Code_JEDEC: MO-187; ComponentLink1Description: Manufacturer URL; ComponentLink1URL: http://www.ti.com/; ComponentLink2Description: Datasheet; ComponentLink2URL: http://www.ti.com/general/docs/lit/getliterature.tsp?genericPartNumber=TLC2555&fileType=pdf; ComponentLink3Description: Package Specification; ComponentLink3URL: http://www.ti.com/litv/pdf/mpds028d
footprint TI-DGK8_N (SOP, 8-Leads, Body 3x3mm, Pitch 0.65mm, IPC Medium Density)
footprint TI-DGK8_L (SOP, 8-Leads, Body 3x3mm, Pitch 0.65mm, IPC High Density)
footprint TI-DGK8_M (SOP, 8-Leads, Body 3x3mm, Pitch 0.65mm, IPC Low Density)
pins: 1 ~{CS} (in) "Chip select. A high-to-low transition on C\S\ removes SDO from 3-state within a maximum delay time. This pin can be connected to the FS output from a DSP on a dedicated serial port", 2 VREF (in) "External reference input", 3 GND (power) "Ground return for the internal circuitry. Unless otherwise noted, all voltage measurements are with respect to GND.", 4 AIN(+) (in) "Positive input", 5 AIN(-) (in) "Inverted input", 6 VDD (power) "Positive supply voltage", 7 SCLK (in) "Output serial clock. This terminal receives the serial SCLK from the host processor", 8 SDO (hiz) "The 3-state serial output for the A/D conversion result. SDO is kept in the high-impedance state when C\S\ is high and presents output data after the C\S\ falling edge until the LSB is presented. The output format is MSB (See Datasheet)"

## TLC2558CDW
designator U?
12-Bit, 400 kSPS ADC, 8-Channel Serial with Power Down, 0 to 70 degC, 20-pin SOIC (DW20), Green (RoHS & no Sb/Br); Manufacturer: Texas Instruments; PartNumber: TLC2558CDW; # Input Channels: 8; Analog Voltage AV/DD(Max)(V): 5.5; Analog Voltage AV/DD(Min)(V): 4.5; Architecture: SAR; ENOB(Bits): 11.6; INL(Max)(+/-LSB): 1; Interface: Serial SPI; Resolution(Bits): 12; Sample Rate (max)(SPS): 400k; SFDR(dB): 84; SINAD(dB): 71; SubFamily: Precision ADC (<=10MSPS); DatasheetVersion: SLAS220A; PackageVersion: 4040000-4/G, 01/2011; PackageReference: DW20; PackageDescription: 20-Pin Plastic Small Outline, Body 12.8 x 7.5 mm, Pitch 1.27 mm; Supplier 1: Digi-Key; Supplier Part Number 1: TLC1541IFNG3-ND; Supplier 2: Newark; Supplier Part Number 2: 61K1754; Supplier 3: Mouser; Supplier Part Number 3: 595-TLC1541IFNG3; Digital Supply(Max)(V): 5.5; Digital Supply(Min)(V): 4.5; Eco-Plan: Green (RoHS & no Sb/Br); Mounting Technology: Surface Mount; Code_JEDEC: MO-013; ComponentLink1Description: Manufacturer URL; ComponentLink1URL: http://www.ti.com/; ComponentLink2Description: Datasheet; ComponentLink2URL: http://www.ti.com/general/docs/lit/getliterature.tsp?genericPartNumber=TLC2558&fileType=pdf; ComponentLink3Description: Package Specification; ComponentLink3URL: http://www.ti.com/lit/ml/mpds173a/mpds173a.pdf
footprint TI-DW20_N (SOIC, 20-Leads, Body 12.8x7.5mm, Pitch 1.27mm, IPC Medium Density)
footprint TI-DW20_L (SOIC, 20-Leads, Body 12.8x7.5mm, Pitch 1.27mm, IPC High Density)
footprint TI-DW20_M (SOIC, 20-Leads, Body 12.8x7.5mm, Pitch 1.27mm, IPC Low Density)
pins: 1 SDO (hiz) "The 3-state serial output for the A/D conversion result. SDO is kept in the high-impedance state when C\S\ is high and after the C\S\ falling edge and until the MSB (D15) is presented. The output format is MSB (D15) first. (See Datasheet)", 2 SDI (in) "Serial data input. The input data is presented with the MSB (D15) first. The first 4-bit MSBs, D(15-12) are decoded as one of the 16 commands (12 only for the TLC1514). All trailing blanks are filled with zeros. The (See Datasheet)", 3 SCLK (in) "Input serial clock. This terminal receives the serial SCLK from the host processor. SCLK is used to clock the input SDI to the input register. It is also used as the source of the conversion clock.", 4 EOC/(~{INT}) (out), 5 VCC (power) "Positive supply voltage", 6 A0 (in) "Analog signal input. The analog inputs are applied to these terminals and are internally multiplexed. The driving source impedance should be less than or equal to 1 kohm. For a source impedance greater than 1 kohm, use the (See Datasheet)", 7 A1 (in) "Analog signal input. The analog inputs are applied to these terminals and are internally multiplexed. The driving source impedance should be less than or equal to 1 kohm. For a source impedance greater than 1 kohm, use the (See Datasheet)", 8 A2 (in) "Analog signal input. The analog inputs are applied to these terminals and are internally multiplexed. The driving source impedance should be less than or equal to 1 kohm. For a source impedance greater than 1 kohm, use the (See Datasheet)", 9 A3 (in) "Analog signal input. The analog inputs are applied to these terminals and are internally multiplexed. The driving source impedance should be less than or equal to 1 kohm. For a source impedance greater than 1 kohm, use the (See Datasheet)", 10 A4 (in) "Analog signal input. The analog inputs are applied to these terminals and are internally multiplexed. The driving source impedance should be less than or equal to 1 kohm. For a source impedance greater than 1 kohm, use the (See Datasheet)", 11 A5 (in) "Analog signal input. The analog inputs are applied to these terminals and are internally multiplexed. The driving source impedance should be less than or equal to 1 kohm. For a source impedance greater than 1 kohm, use the (See Datasheet)", 12 A6 (in) "Analog signal input. The analog inputs are applied to these terminals and are internally multiplexed. The driving source impedance should be less than or equal to 1 kohm. For a source impedance greater than 1 kohm, use the (See Datasheet)", 13 A7 (in) "Analog signal input. The analog inputs are applied to these terminals and are internally multiplexed. The driving source impedance should be less than or equal to 1 kohm. For a source impedance greater than 1 kohm, use the (See Datasheet)", 14 ~{CSTART} (in) "This terminal controls the start of sampling of the analog input from a selected multiplex channel. A high-to-low transition starts sampling of the analog input signal. A low-to-high transition puts the S/H in hold mode and (See Datasheet)", 15 GND (power) "Ground return for the internal circuitry. Unless otherwise noted, all voltage measurements are with respect to GND.", 16 ~{PWDN} (in) "Both analog and reference circuits are powered down when this pin is at logic zero. The device can be restarted by active C\S\ or C\S\T\A\R\T\ after this pin is pulled back to logic one.", 17 FS (in) "DSP frame sync input. Indication of the start of a serial data frame in or out of the device. If FS remains low at the falling edge of C\S\, SDI is not enabled until an active FS is presented. A high-to-low transition on the (See Datasheet)", 18 REFM (in) "External reference input or internal reference decoupling.", 19 REFP (in) "External reference input or internal reference decoupling. (Shunt capacitors of 10 uf and 0.1 uf between REFP and REFM.) The maximum input voltage range is determined by the difference between the voltage applied to this (See Datasheet)", 20 ~{CS} (in) "Chip select. A high-to-low transition on the C\S\ input resets the internal 4-bit counter, enables SDI, and removes SDO from 3-state within a maximum setup time. SDI is disabled within a setup time after the 4-bit counter (See Datasheet)"